# Altium footprint library flashFootprintV2.PcbLib: 1 footprints
Each footprint in its own frame and in the unit in brackets; x right, y up, seen from the top. Pads: shape width x height; smd on the part's side, far side on the other; paste and mask are expansions set on the pad; w line width, h text height; cw(c..) or ccw(c..) is an arc to the next point about the centre after c.
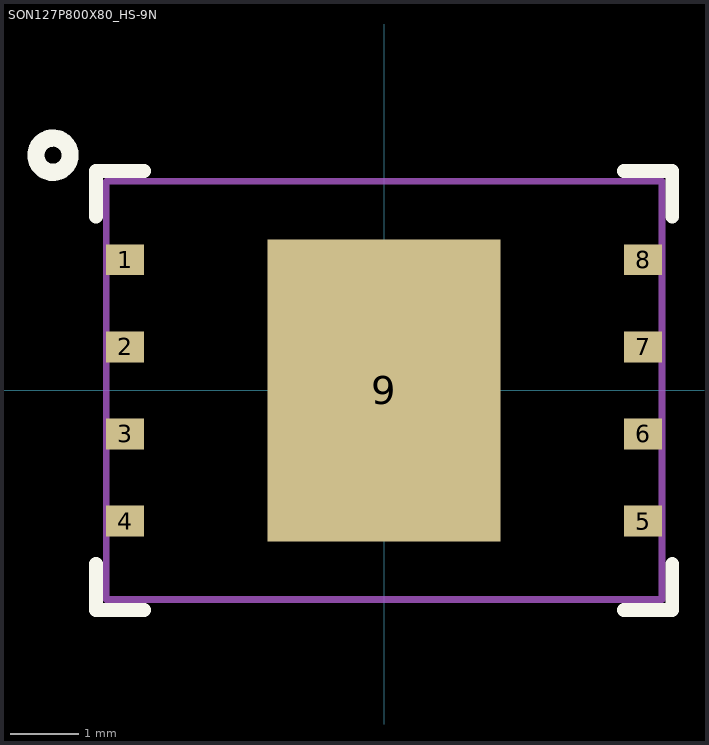
[diagram p0: the footprint, top view; thin cyan lines are the x and y axes]

## SON127P800X80_HS-9N [mm] "SON, 8-Leads, Body 6.00x8.00mm, Pitch 1.27mm, Thermal Pad 3.40x4.30mm, IPC Medium Density"
height 0.8
pads (9):
  rect 0.55x0.45 smd: 1(-3.775,1.905) 2(-3.775,0.635) 3(-3.775,-0.635) 4(-3.775,-1.905) 5(3.775,-1.905) 6(3.775,-0.635) 7(3.775,0.635) 8(3.775,1.905)
  rect 3.4x4.4 smd paste-2.15: 9(0,0)
Top Overlay:
  circle w0.25: c-4.826,3.429 r0.25
  lines w0.2: -4.2,-2.53 -4.2,-3.2 -3.495,-3.2 ; -4.2,2.53 -4.2,3.2 -3.495,3.2 ; 3.495,-3.2 4.2,-3.2 4.2,-2.53 ; 3.495,3.2 4.2,3.2 4.2,2.53
Top Paste:
  rectangle: -0.615,0.665 0.615,1.595
  rectangle: -0.615,-0.465 0.615,0.465
  rectangle: -0.615,-1.595 0.615,-0.665
Mechanical 13:
  lines w0.1: -4.05,-3.05 -4.05,3.05 4.05,3.05 4.05,-3.05 -4.05,-3.05
Mechanical 15:
  lines w0.1: -0.5,0 0.5,0 ; 0,-0.5 0,0.5
3D body: height 0.8, standoff 0, extent -4.05,-3.05 4.05,3.05